# Altium footprint library DCP01_P.PcbLib: 1 footprints
Each footprint in its own frame and in the unit in brackets; x right, y up, seen from the top. Pads: shape width x height; smd on the part's side, far side on the other; paste and mask are expansions set on the pad; w line width, h text height; cw(c..) or ccw(c..) is an arc to the next point about the centre after c.
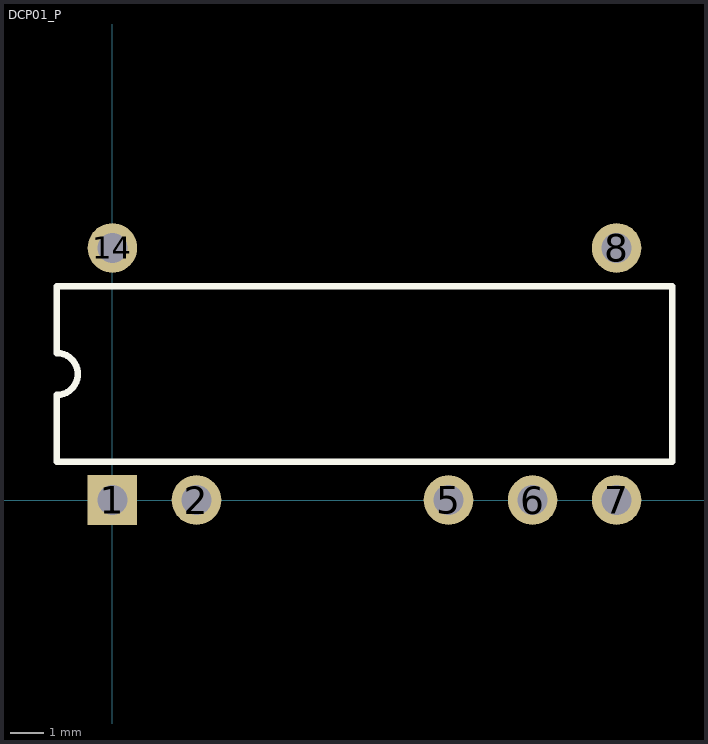
[diagram p0: the footprint, top view; thin cyan lines are the x and y axes]

## DCP01_P [mm]
height 2.54
pads (7):
  rect 1.5x1.5 hole 0.9: 1(0,0)
  round 1.5 hole 0.9: 2(2.54,0) 5(10.16,0) 6(12.7,0) 7(15.24,0) 8(15.24,7.62) 14(0,7.62)
Top Overlay:
  lines w0.2: -1.68,1.16 16.92,1.16 16.92,6.46 -1.68,6.46 -1.68,4.445 cw(c-1.68,3.81) -1.68,3.175 -1.68,1.16